# Altium integrated library JST2P.IntLib: 1 symbol
Pins are listed as number, name and electrical type; pins without a type are passive.

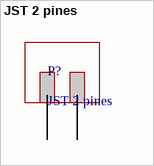
[diagram p0: symbol JST 2 pines]

## JST 2 pines
designator P?
Conector JST para baterías
footprint PCBComponent_1
pins: 1, 2